# Altium footprint library Резистор C2-29В-0,125 X.XxОм 0,125Вт 1% [DIP].PcbLib: 1 footprints
Each footprint in its own frame and in the unit in brackets; x right, y up, seen from the top. Pads: shape width x height; smd on the part's side, far side on the other; paste and mask are expansions set on the pad; w line width, h text height; cw(c..) or ccw(c..) is an arc to the next point about the centre after c.
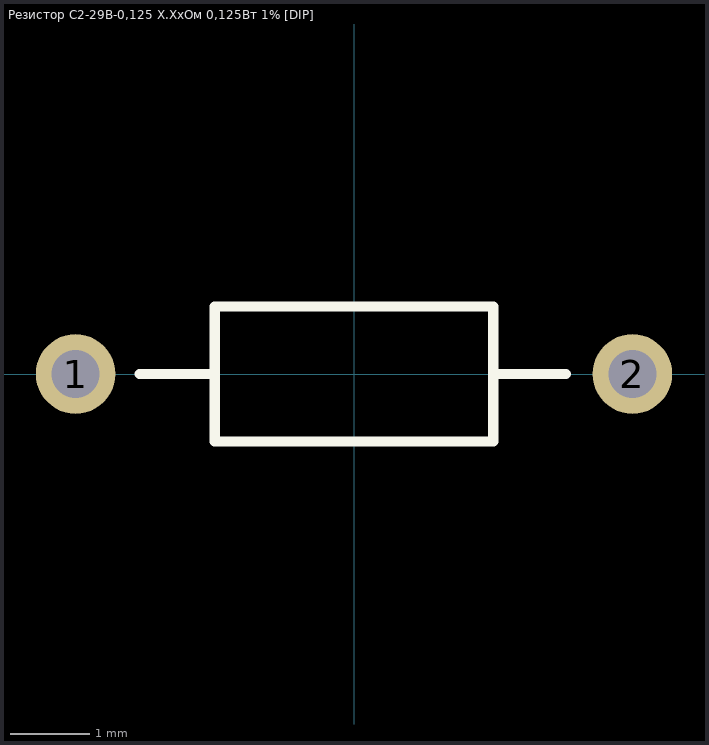
[diagram p0: the footprint, top view; thin cyan lines are the x and y axes]

## Резистор C2-29В-0,125 X.XxОм 0,125Вт 1% [DIP] [mm]
pads (2):
  round 1 hole 0.6 unplated: 1(-3.5,0) 2(3.5,0)
Top Overlay:
  lines w0.127: -2.695,0 -1.778,0 ; 1.75,0 2.667,0 ; -1.75,-0.85 -1.75,0.85 1.75,0.85 1.75,-0.85 -1.75,-0.85